# EAGLE library part TP6841S6 (library dc-dc)
SOT23-6 DC-DC Converters ROHS
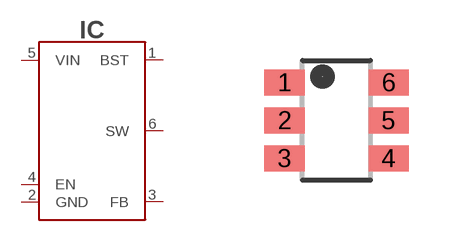
[diagram p8: symbol with the pads of SOT23-6; footprint SOT23-6]

Designator prefix IC

## TP6841S6 (LCSC#: C2844736; MANF: TECH PUBLIC; MANF#: TP6841S6)  [SOT23-6]
1  BST
2  GND
3  FB
4  EN
5  VIN
6  SW

## Footprint SOT23-6 (pad centres in mm)
smd 1 x 0.65: 1 -1.3,0.95; 2 -1.3,0; 3 -1.3,-0.95; 4 1.3,-0.95; 5 1.3,0; 6 1.3,0.95